# EAGLE library part ISO1724_DOSE (library ISO1724)
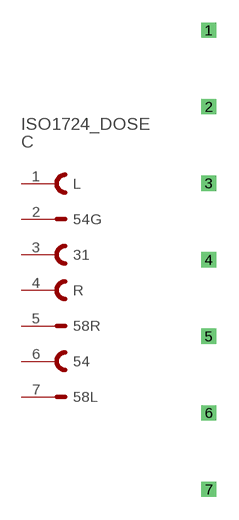
[diagram p0: symbol with the pads of ISO1724_DOSE; footprint ISO1724_DOSE]

Designator prefix C

## ISO1724_DOSE  [ISO1724_DOSE]
1  L
2  54G
3  31
4  R
5  58R
6  54
7  58L

## Footprint ISO1724_DOSE (pad centres in mm)
Dummy
drill 0.5 pad 1 square: 1 -5.08,7.62; 2 -5.08,2.54; 3 -5.08,-2.54; 4 -5.08,-7.62; 5 -5.08,-12.7; 6 -5.08,-17.78; 7 -5.08,-22.86